# Altium footprint library MODULES.PcbLib: 2 footprints
Each footprint in its own frame and in the unit in brackets; x right, y up, seen from the top. Pads: shape width x height; smd on the part's side, far side on the other; paste and mask are expansions set on the pad; w line width, h text height; cw(c..) or ccw(c..) is an arc to the next point about the centre after c.
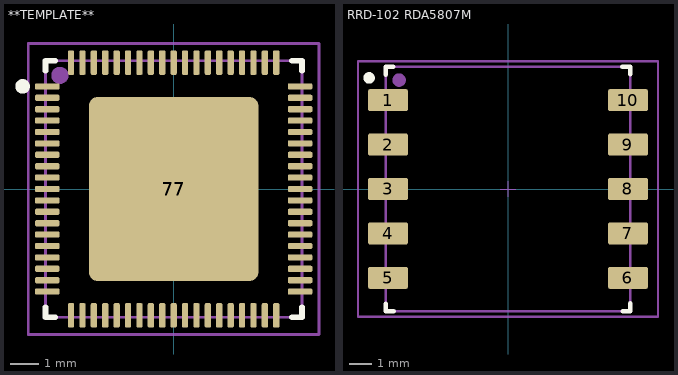
[diagram p0: the footprints below, top view; thin cyan lines are the x and y axes]

## **TEMPLATE** [mm] "PLEASE COPY TO CREATE NEW COMPONENT"
pads (78):
  rrect50% 0.86x0.22 smd mask+0.038: 1(-4.435,3.6) 2(-4.435,3.2) 3(-4.435,2.8) 4(-4.435,2.4) 5(-4.435,2) 6(-4.435,1.6) 7(-4.435,1.2) 8(-4.435,0.8) 9(-4.435,0.4) 10(-4.435,0) 11(-4.435,-0.4) 12(-4.435,-0.8) 13(-4.435,-1.2) 14(-4.435,-1.6) 15(-4.435,-2) 16(-4.435,-2.4) 17(-4.435,-2.8) 18(-4.435,-3.2) 19(-4.435,-3.6) 39(4.435,-3.6) 40(4.435,-3.2) 41(4.435,-2.8) 42(4.435,-2.4) 43(4.435,-2) 44(4.435,-1.6) 45(4.435,-1.2) 46(4.435,-0.8) 47(4.435,-0.4) 48(4.435,0) 49(4.435,0.4) 50(4.435,0.8) 51(4.435,1.2) 52(4.435,1.6) 53(4.435,2) 54(4.435,2.4) 55(4.435,2.8) 56(4.435,3.2) 57(4.435,3.6)
  rrect50% 0.22x0.86 smd mask+0.038: 20(-3.6,-4.435) 21(-3.2,-4.435) 22(-2.8,-4.435) 23(-2.4,-4.435) 24(-2,-4.435) 25(-1.6,-4.435) 26(-1.2,-4.435) 27(-0.8,-4.435) 28(-0.4,-4.435) 29(0,-4.435) 30(0.4,-4.435) 31(0.8,-4.435) 32(1.2,-4.435) 33(1.6,-4.435) 34(2,-4.435) 35(2.4,-4.435) 36(2.8,-4.435) 37(3.2,-4.435) 38(3.6,-4.435) 58(3.6,4.435) 59(3.2,4.435) 60(2.8,4.435) 61(2.4,4.435) 62(2,4.435) 63(1.6,4.435) 64(1.2,4.435) 65(0.8,4.435) 66(0.4,4.435) 67(0,4.435) 68(-0.4,4.435) 69(-0.8,4.435) 70(-1.2,4.435) 71(-1.6,4.435) 72(-2,4.435) 73(-2.4,4.435) 74(-2.8,4.435) 75(-3.2,4.435) 76(-3.6,4.435)
  rrect10% 5.9x6.4 smd paste-4: 77(0,0)
  rrect10% 5.95x6.45 smd paste-4: 77(0,0)
Top Overlay:
  circle w0.26: c-5.3,3.6 r0.127
  lines w0.2: -4.5,-4.15 -4.5,-4.5 -4.15,-4.5 ; -4.5,4.15 -4.5,4.5 -4.15,4.5 ; 4.15,-4.5 4.5,-4.5 4.5,-4.15 ; 4.15,4.5 4.5,4.5 4.5,4.15
Top Paste:
  region: -1.265,-2.858 -2.618,-2.858 -2.618,-1.345 -1.265,-1.345
  region: -1.265,1.348 -2.62,1.348 -2.62,2.855 -1.265,2.855
  region: -1.265,-0.756 -2.619,-0.756 -2.619,0.755 -1.265,0.755
  region: 0.675,-0.756 -0.676,-0.756 -0.676,0.755 0.675,0.755
  region: 0.675,1.347 -0.676,1.347 -0.676,2.855 0.675,2.855
  region: 0.675,-2.857 -0.675,-2.857 -0.675,-1.345 0.675,-1.345
  region: 2.615,-2.858 1.266,-2.858 1.266,-1.345 2.615,-1.345
  region: 2.615,-0.755 1.266,-0.755 1.266,0.755 2.615,0.755
  region: 2.615,1.347 1.267,1.347 1.267,2.855 2.615,2.855
Top Component Center:
  lines w0.05: -0.35,0 0.35,0 ; 0,-0.35 0,0.35
Top Assembly:
  circle w0.4: c-3.992,3.987 r0.1
  lines w0.1: -4.5,-4.5 4.5,-4.5 4.5,4.5 -4.5,4.5 -4.5,-4.5
  text ".Designator" at -3.38,-0.339 h1.5
Top Component Outline:
  lines w0.1: -4.5,-4.5 -4.5,4.5 4.5,4.5 4.5,-4.5 -4.5,-4.5
Top Courtyard:
  lines w0.1: -5.1,-5.1 5.1,-5.1 5.1,5.1 -5.1,5.1 -5.1,-5.1
3D body "QFN-76-1EP_9x9mm_P0.4mm_EP3.8x3.8mm.step": height 0.87, standoff 0, extent -4.5,-4.5 4.5,4.5

## RRD-102 RDA5807M [mm] "PCB Module SDR FM Radio I2C"
pads (10):
  rrect20% 1.8x1 smd mask+0.038: 1(-5.4,4) 2(-5.4,2) 3(-5.4,0) 4(-5.4,-2) 5(-5.4,-4) 6(5.4,-4) 7(5.4,-2) 8(5.4,0) 9(5.4,2) 10(5.4,4)
Top Overlay:
  circle w0.26: c-6.25,5 r0.127
  lines w0.2: -5.504,5.15 -5.504,5.5 -5.154,5.5 ; -5.5,-5.154 -5.5,-5.504 -5.15,-5.504 ; 5.15,5.504 5.5,5.504 5.5,5.154 ; 5.154,-5.5 5.504,-5.5 5.504,-5.15
Top Component Center:
  lines w0.05: -0.35,0 0.35,0 ; 0,-0.35 0,0.35
Top Assembly:
  circle w0.4: c-4.9,4.9 r0.1
  lines w0.1: -5.5,-5.5 -5.5,5.5 5.5,5.5 5.5,-5.5 -5.5,-5.5
  text ".Designator" at -0.339,3.38 h1.5
Top Component Outline:
  lines w0.1: -5.5,-5.5 -5.5,5.5 5.5,5.5 5.5,-5.5 -5.5,-5.5
Top Courtyard:
  lines w0.1: -6.75,-5.75 -6.75,5.75 6.75,5.75 6.75,-5.75 6.5,-5.75 -6.75,-5.75
3D body "RRD-120.step": height 1.99, standoff 0, extent -5.5,-5.5 5.5,5.5